# Altium footprint library all_kalex_Library.PcbLib: 234 footprints (part 1 of 15)
Each footprint in its own frame and in the unit in brackets; x right, y up, seen from the top. Pads: shape width x height; smd on the part's side, far side on the other; paste and mask are expansions set on the pad; w line width, h text height; cw(c..) or ccw(c..) is an arc to the next point about the centre after c.
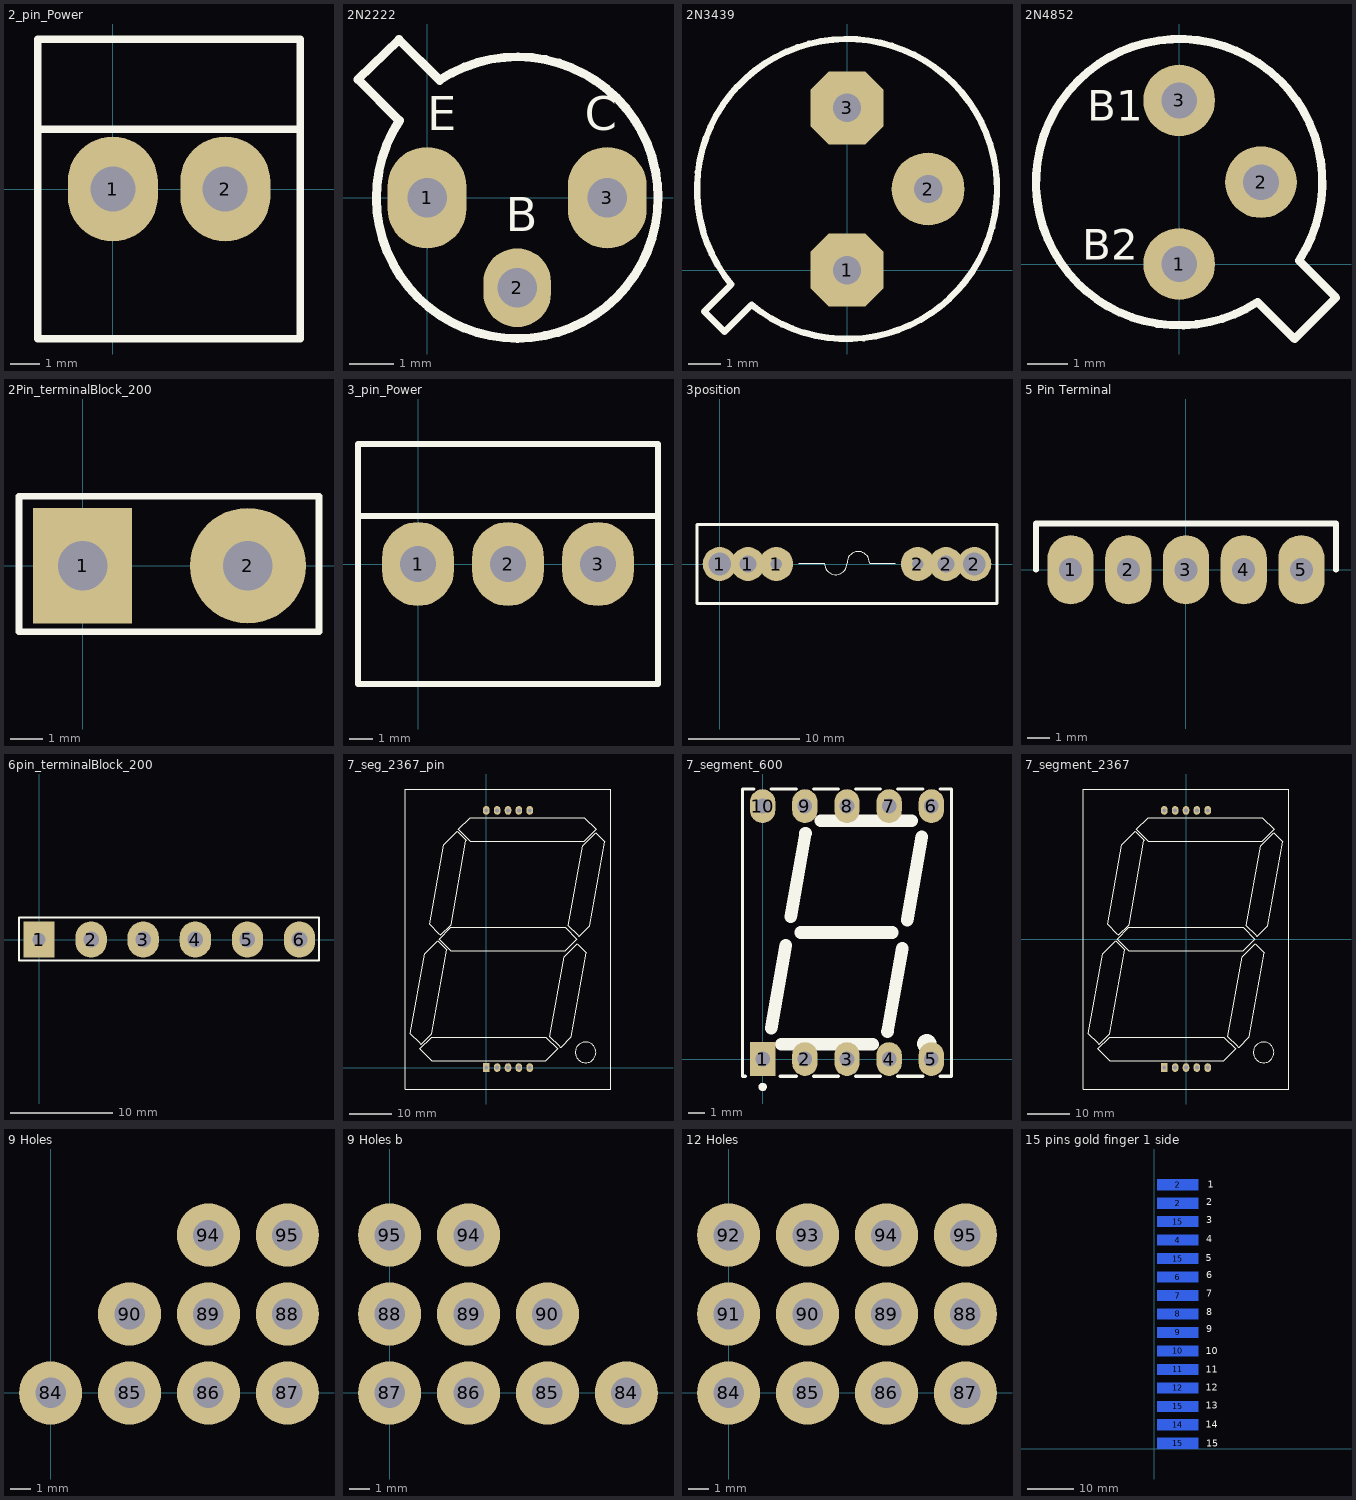
[diagram p0: the footprints below, top view; thin cyan lines are the x and y axes]

## 2_pin_Power [mil]
pads (2):
  oval 120x140 hole 60: 1(0,0) 2(150,0)
Top Overlay:
  lines w10: -100,80 250,80 ; -100,80 -100,-200 250,-200 250,80 ; -100,80 -100,200 250,200 250,80

## 2N2222 [mil] "Transistor"
pads (3):
  oval 70x90 hole 35: 1(0,0) 3(160,0)
  oval 60x70 hole 35: 2(80,-80)
Top Overlay:
  lines w7.87: -25.11,68.71 -61.3,104.9 -24.89,140.3 11.3,104.11 ; -24.52,68.56 ccw(c80,0) 11.44,104.52
  text "E" at 0,60 h30
  text "C" at 140,60 h30
  text "B" at 70,-30 h30

## 2N3439 [mil] "2N3439"
pads (3):
  oct 90x90 hole 35: 1(0,0) 3(0,200)
  round 90 hole 35: 2(100,100)
Top Overlay:
  lines w7.87: -176.18,-51.12 -142.77,-17.71 cw(c0,100) -117.71,-42.77 -151.12,-76.18 -176.18,-51.12

## 2N4852 [mil]
pads (3):
  round 70 hole 35: 1(0,0) 2(80,80) 3(0,160)
Top Overlay:
  lines w8: 76.71,-37.11 112.9,-73.3 153.3,-32.9 117.11,3.3 ; 76.79,-37.06 cw(c0,80) 117.06,3.21
  text "B2" at -95,4 h30
  text "B1" at -90,140 h30

## 2Pin_terminalBlock_200 [mil] "2Pin_terminalBlock_200"
pads (2):
  rect 120x140 hole 60: 1(0,0)
  round 140 hole 60: 2(200,0)
Top Overlay:
  lines w7.87: -77,-80 286,-80 286,84 -77,84 -77,-80

## 3_pin_Power [mil]
pads (3):
  oval 120x140 hole 60: 1(0,0) 2(150,0) 3(300,0)
Top Overlay:
  lines w10: -100,80 -100,-200 400,-200 400,80 ; -100,80 400,80 ; -100,80 -100,200 400,200 400,80

## 3position [mil]
pads (6):
  round 120 hole 80: 1(0,0) 2(900,0)
  round 120 hole 60: 1(100,0) 2(800,0)
  round 120 hole 40: 1(200,0) 2(700,0)
Top Overlay:
  lines w3: 280,2 370.15,2 ccw(c410.08,2) 450,2 ; 450,4 cw(c489.92,4) 529.85,4 ; 530,2 620.15,2
  lines w10: -80,-140 -80,140 980,140 980,-140 -80,-140

## 5 Pin Terminal [mil]
pads (5):
  oval 80x120 hole 40: 1(-200,0) 2(-100,0) 3(0,0) 4(100,0) 5(200,0)
Top Overlay:
  lines w10: -260,0 -260,80 260,80 260,0

## 6pin_terminalBlock_200 [mil] "6pin_terminalBlock_200"
pads (6):
  rect 120x140 hole 50: 1(0,0)
  oval 120x140 hole 60: 2(200,0) 3(400,0) 4(600,0) 5(800,0) 6(1000,0)
Top Overlay:
  lines w7.87: -77,-80 1075,-80 1075,84 -77,84 -77,-80

## 7_seg_2367_pin [mil]
pads (10):
  rect 60x80 hole 35: 1(0,0)
  oval 60x80 hole 35: 2(100,0) 3(200,0) 4(300,0) 5(400,0) 6(400,2367) 7(300,2367) 8(200,2367) 9(100,2367) 10(0,2367)
Top Overlay:
  circle w10: c915.2,140.5 r94.8
  lines w5: -364.14,1085.35 -500.58,312.1 -596.18,216.5 -598,216.5 -601.38,216.5 -617.69,232.81 -697.89,313.01 ; -363.16,1086.33 -446.33,1169.5 -568.28,1047.55 -697.89,313.01 ; -187.14,2089.35 -323.58,1316.1 -419.18,1220.5 -421,1220.5 -424.38,1220.5 -440.69,1236.81 -520.89,1317.01 ; -186.16,2090.33 -269.33,2173.5 -391.28,2051.55 -520.89,1317.01 ; 919.86,1057.35 783.42,284.1 687.82,188.5 686,188.5 682.62,188.5 666.31,204.81 586.11,285.01 ; 920.84,1058.33 837.67,1141.5 715.72,1019.55 586.11,285.01 ; 1089.86,2078.35 953.42,1305.1 857.82,1209.5 856,1209.5 852.62,1209.5 836.31,1225.81 756.11,1306.01 ; 1090.84,2079.33 1007.67,2162.5 885.72,2040.55 756.11,1306.01 ; -697.89,313.01 -697.89,313.01 ; -520.89,1317.01 -520.89,1317.01 ; 586.11,285.01 586.11,285.01 ; 756.11,1306.01 756.11,1306.01 ; -612,172.5 -504,64.5 548,64.5 656,172.5 548,280.5 -504,280.5 -612,172.5 ; -434,1183.5 -326,1291.5 726,1291.5 834,1183.5 726,1075.5 -326,1075.5 -434,1183.5 ; -256,2192.5 -148,2084.5 904,2084.5 1012,2192.5 904,2300.5 -148,2300.5 -256,2192.5
  lines w10: -745,-197 1145,-197 1145,2564 -745,2564 -745,-197

## 7_segment_600 [mil]
pads (10):
  rect 60x80 hole 35: 1(0,0)
  oval 60x80 hole 35: 2(100,0) 3(200,0) 4(300,0) 5(400,0) 6(400,600) 7(300,600) 8(200,600) 9(100,600) 10(0,600)
Top Overlay:
  circle w9.84: c0,-66.14 r4.92
  circle w33.86: c389.37,36.22 r5.91
  lines w7.87: -40.94,-40.55 -48.03,-40.55 -48.03,640.55 -20.47,640.55 ; 20.47,640.55 79.53,640.55 ; 40.94,-40.55 79.53,-40.55 ; 120.47,-40.55 179.53,-40.55 ; 120.47,640.55 179.53,640.55 ; 220.47,-40.55 279.53,-40.55 ; 220.47,640.55 279.53,640.55 ; 320.47,-40.55 379.53,-40.55 ; 320.47,640.55 379.53,640.55 ; 420.47,-40.55 448.03,-40.55 448.03,640.55 420.47,640.55
  lines w30: 20.08,73.23 54.72,269.69 ; 43.7,35.08 260.63,35.08 ; 66.69,337.83 101.57,535.43 ; 90.55,300 307.09,300 ; 137.8,564.92 353.94,564.92 ; 296.06,65.35 330.71,262.2 ; 342.91,329.92 377.56,527.56

## 7_segment_2367 [mil]
pads (10):
  rect 60x80 hole 35: 1(-200,-1183.5)
  oval 60x80 hole 35: 2(-100,-1183.5) 3(0,-1183.5) 4(100,-1183.5) 5(200,-1183.5) 6(200,1183.5) 7(100,1183.5) 8(0,1183.5) 9(-100,1183.5) 10(-200,1183.5)
Top Overlay:
  circle w10: c715.2,-1043 r94.8
  lines w5: -564.14,-98.15 -700.58,-871.4 -796.18,-967 -798,-967 -801.38,-967 -817.69,-950.69 -897.89,-870.49 ; -563.16,-97.17 -646.33,-14 -768.28,-135.95 -897.89,-870.49 ; -387.14,905.85 -523.58,132.6 -619.18,37 -621,37 -624.38,37 -640.69,53.31 -720.89,133.51 ; -386.16,906.83 -469.33,990 -591.28,868.05 -720.89,133.51 ; 719.86,-126.15 583.42,-899.4 487.82,-995 486,-995 482.62,-995 466.31,-978.69 386.11,-898.49 ; 720.84,-125.17 637.67,-42 515.72,-163.95 386.11,-898.49 ; 889.86,894.85 753.42,121.6 657.82,26 656,26 652.62,26 636.31,42.31 556.11,122.51 ; 890.84,895.83 807.67,979 685.72,857.05 556.11,122.51 ; -897.89,-870.49 -897.89,-870.49 ; -720.89,133.51 -720.89,133.51 ; 386.11,-898.49 386.11,-898.49 ; 556.11,122.51 556.11,122.51 ; -812,-1011 -704,-1119 348,-1119 456,-1011 348,-903 -704,-903 -812,-1011 ; -634,0 -526,108 526,108 634,0 526,-108 -526,-108 -634,0 ; -456,1009 -348,901 704,901 812,1009 704,1117 -348,1117 -456,1009
  lines w10: -945,-1380.5 945,-1380.5 945,1380.5 -945,1380.5 -945,-1380.5

## 9 Holes [mil]
pads (9):
  round 120 hole 58: 84(0,0) 85(150,0) 86(300,0) 87(450,0) 88(450,150) 89(300,150) 90(150,150) 94(300,300) 95(450,300)

## 9 Holes b [mil]
pads (9):
  round 120 hole 58: 84(450,0) 85(300,0) 86(150,0) 87(0,0) 88(0,150) 89(150,150) 90(300,150) 94(150,300) 95(0,300)

## 12 Holes [mil]
pads (12):
  round 120 hole 58: 84(0,0) 85(150,0) 86(300,0) 87(450,0) 88(450,150) 89(300,150) 90(150,150) 91(0,150) 92(0,300) 93(150,300) 94(300,300) 95(450,300)

## 15 pins gold finger 1 side [mil]
pads (15):
  rect 350x90 smd far side: 2(200,2071.96) 2(200,2227.8) 4(200,1760.12) 6(200,1448.28) 7(200,1292.36) 8(200,1136.44) 9(200,980.52) 10(200,824.6) 11(200,668.68) 12(200,512.76) 14(200,200.92) 15(200,45) 15(200,356.84) 15(200,1604.2) 15(200,1916.04)
Top Overlay:
  text "13" at 435,335 h60
  text "1" at 454,2201 h60
  text "5" at 436,1583 h60
  text "3" at 439,1902 h60
  text "15" at 440,14 h60
  text "14" at 438,176 h60
  text "12" at 438,489 h60
  text "11" at 436,641 h60
  text "10" at 437,796 h60
  text "9" at 440,982 h60
  text "8" at 440,1124 h60
  text "7" at 440,1283 h60
  text "6" at 440,1440 h60
  text "4" at 440,1743 h60
  text "2" at 440,2056 h60